# Altium schematic symbol library Connector_Audio.SchLib: 233 symbols (part 2 of 3)
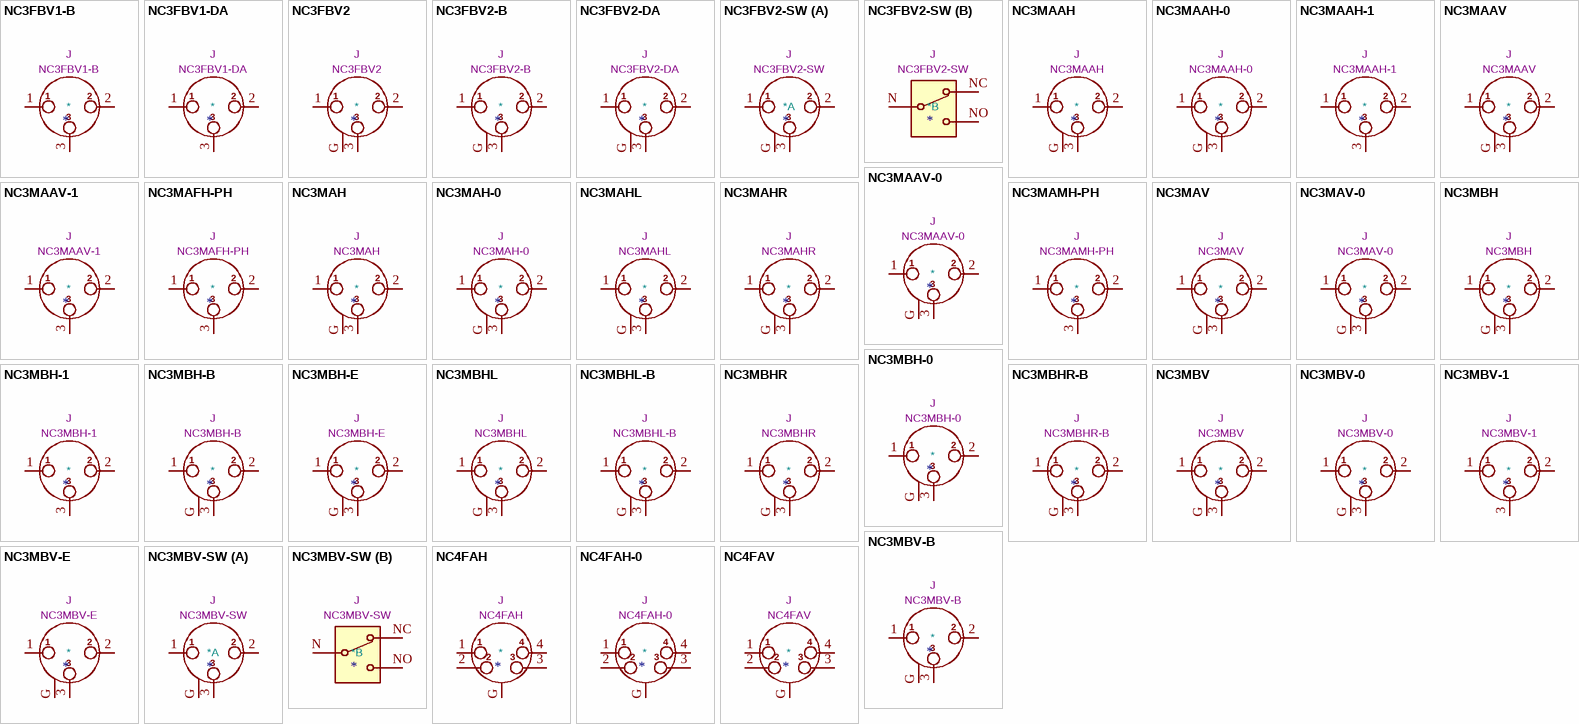
[diagram p8: symbols NC3FBV1-B to NC4FAV]

## NC3MBH-B
designator *  value NC3MBH-B  Reference: J
B Series, 3 pole male XLR receptacle, grounding: separate ground contact to mating connector shell and front panel, steel retention lug, horizontal PCB mount, black chrome shell; ki_keywords: xlr connector neutrik; ki_fp_filters: Jack*XLR*; Footprint: Connector_Audio:Jack_XLR_Neutrik_NC3MBH-B_Horizontal; Datasheet: https://www.neutrik.com/en/product/nc3mbh-b; Description_: B Series, 3 pole male XLR receptacle, grounding: separate ground contact to mating connector shell and front panel, steel retention lug, horizontal PCB mount, black chrome shell
pins: 1, 2, 3, G

## NC3MBH-E
designator *  value NC3MBH-E  Reference: J
B Series, 3 pole male XLR receptacle, grounding: separate ground contact to mating connector shell and front panel, steel retention lug, horizontal PCB mount, additional ground contacts; ki_keywords: xlr connector neutrik; ki_fp_filters: Jack*XLR*; Footprint: Connector_Audio:Jack_XLR_Neutrik_NC3MBH-E_Horizontal; Datasheet: https://www.neutrik.com/en/product/nc3mbh-e; Description_: B Series, 3 pole male XLR receptacle, grounding: separate ground contact to mating connector shell and front panel, steel retention lug, horizontal PCB mount, additional ground contacts
pins: 1, 2, 3, G

## NC3MBHL
designator *  value NC3MBHL  Reference: J
B Series, 3 pole male XLR receptacle, grounding: separate ground contact to mating connector shell and front panel, steel retention lug, lateral left PCB mount; ki_keywords: xlr connector neutrik; ki_fp_filters: Jack*XLR*; Footprint: Connector_Audio:Jack_XLR_Neutrik_NC3MBHL_Horizontal; Datasheet: https://www.neutrik.com/en/product/nc3mbhl; Description_: B Series, 3 pole male XLR receptacle, grounding: separate ground contact to mating connector shell and front panel, steel retention lug, lateral left PCB mount
pins: 1, 2, 3, G

## NC3MBHL-B
designator *  value NC3MBHL-B  Reference: J
B Series, 3 pole male XLR receptacle, grounding: separate ground contact to mating connector shell and front panel, steel retention lug, lateral left PCB mount, black chrome shell; ki_keywords: xlr connector neutrik; ki_fp_filters: Jack*XLR*; Footprint: Connector_Audio:Jack_XLR_Neutrik_NC3MBHL-B_Horizontal; Datasheet: https://www.neutrik.com/en/product/nc3mbhl-b; Description_: B Series, 3 pole male XLR receptacle, grounding: separate ground contact to mating connector shell and front panel, steel retention lug, lateral left PCB mount, black chrome shell
pins: 1, 2, 3, G

## NC3MBHR
designator *  value NC3MBHR  Reference: J
B Series, 3 pole male XLR receptacle, grounding: separate ground contact to mating connector shell and front panel, steel retention lug, lateral right PCB mount; ki_keywords: xlr connector neutrik; ki_fp_filters: Jack*XLR*; Footprint: Connector_Audio:Jack_XLR_Neutrik_NC3MBHR_Horizontal; Datasheet: https://www.neutrik.com/en/product/nc3mbhr; Description_: B Series, 3 pole male XLR receptacle, grounding: separate ground contact to mating connector shell and front panel, steel retention lug, lateral right PCB mount
pins: 1, 2, 3, G

## NC3MBHR-B
designator *  value NC3MBHR-B  Reference: J
B Series, 3 pole male XLR receptacle, grounding: separate ground contact to mating connector shell and front panel, steel retention lug, lateral right PCB mount, black chrome shell; ki_keywords: xlr connector neutrik; ki_fp_filters: Jack*XLR*; Footprint: Connector_Audio:Jack_XLR_Neutrik_NC3MBHR-B_Horizontal; Datasheet: https://www.neutrik.com/en/product/nc3mbhr-b; Description_: B Series, 3 pole male XLR receptacle, grounding: separate ground contact to mating connector shell and front panel, steel retention lug, lateral right PCB mount, black chrome shell
pins: 1, 2, 3, G

## NC3MBV
designator *  value NC3MBV  Reference: J
B Series, 3 pole male XLR receptacle, grounding: separate ground contact to mating connector shell and front panel, steel retention lug, vertical PCB mount; ki_keywords: xlr connector neutrik; ki_fp_filters: Jack*XLR*; Footprint: Connector_Audio:Jack_XLR_Neutrik_NC3MBV_Vertical; Datasheet: https://www.neutrik.com/en/product/nc3mbv; Description_: B Series, 3 pole male XLR receptacle, grounding: separate ground contact to mating connector shell and front panel, steel retention lug, vertical PCB mount
pins: 1, 2, 3, G

## NC3MBV-0
designator *  value NC3MBV-0  Reference: J
B Series, 3 pole male XLR receptacle, grounding: ground contact connected to shell ground, but not to front panel and Pin 1, steel retention lug, vertical PCB mount; ki_keywords: xlr connector neutrik; ki_fp_filters: Jack*XLR*; Footprint: Connector_Audio:Jack_XLR_Neutrik_NC3MBV-0_Vertical; Datasheet: https://www.neutrik.com/en/product/nc3mbv-0; Description_: B Series, 3 pole male XLR receptacle, grounding: ground contact connected to shell ground, but not to front panel and Pin 1, steel retention lug, vertical PCB mount
pins: 1, 2, 3, G

## NC3MBV-1
designator *  value NC3MBV-1  Reference: J
B Series, 3 pole male XLR receptacle, grounding: mating connector shell to pin1 and front panel, steel retention lug, vertical PCB mount; ki_keywords: xlr connector neutrik; ki_fp_filters: Jack*XLR*; Footprint: Connector_Audio:Jack_XLR_Neutrik_NC3MBV-1_Vertical; Datasheet: https://www.neutrik.com/en/product/nc3mbv-1; Description_: B Series, 3 pole male XLR receptacle, grounding: mating connector shell to pin1 and front panel, steel retention lug, vertical PCB mount
pins: 1, 2, 3

## NC3MBV-B
designator *  value NC3MBV-B  Reference: J
B Series, 3 pole male XLR receptacle, grounding: separate ground contact to mating connector shell and front panel, steel retention lug, vertical PCB mount, black chrome shell; ki_keywords: xlr connector neutrik; ki_fp_filters: Jack*XLR*; Footprint: Connector_Audio:Jack_XLR_Neutrik_NC3MBV-B_Vertical; Datasheet: https://www.neutrik.com/en/product/nc3mbv-b; Description_: B Series, 3 pole male XLR receptacle, grounding: separate ground contact to mating connector shell and front panel, steel retention lug, vertical PCB mount, black chrome shell
pins: 1, 2, 3, G

## NC3MBV-E
designator *  value NC3MBV-E  Reference: J
B Series, 3 pole male XLR receptacle, grounding: separate ground contact to mating connector shell and front panel, steel retention lug, vertical PCB mount, additional ground contacts; ki_keywords: xlr connector neutrik; ki_fp_filters: Jack*XLR*; Footprint: Connector_Audio:Jack_XLR_Neutrik_NC3MBV-E_Vertical; Datasheet: https://www.neutrik.com/en/product/nc3mbv-e; Description_: B Series, 3 pole male XLR receptacle, grounding: separate ground contact to mating connector shell and front panel, steel retention lug, vertical PCB mount, additional ground contacts
pins: 1, 2, 3, G

## NC3MBV-SW
designator *  value NC3MBV-SW  Reference: J
B Series, 3 pole male XLR receptacle, switching contacts, grounding: separate ground contact to mating connector shell and front panel, vertical PCB mount; ki_keywords: xlr connector spdt switch neutrik; ki_fp_filters: Jack*XLR*; Footprint: Connector_Audio:Jack_XLR_Neutrik_NC3MBV-SW_Vertical; Datasheet: https://www.neutrik.com/en/product/nc3mbv-sw; Description_: B Series, 3 pole male XLR receptacle, switching contacts, grounding: separate ground contact to mating connector shell and front panel, vertical PCB mount
part A pins: 1, 2, 3, G
part B pins: N, NC, NO

## NC4FAH
designator *  value NC4FAH  Reference: J
A Series, 4 pole female XLR receptacle, grounding: separate ground contact to mating connector shell and front panel, horizontal PCB mount; ki_keywords: xlr connector neutrik; ki_fp_filters: Jack*XLR*; Footprint: Connector_Audio:Jack_XLR_Neutrik_NC4FAH_Horizontal; Datasheet: https://www.neutrik.com/en/product/nc4fah; Description_: A Series, 4 pole female XLR receptacle, grounding: separate ground contact to mating connector shell and front panel, horizontal PCB mount
pins: 1, 2, 3, 4, G

## NC4FAH-0
designator *  value NC4FAH-0  Reference: J
A Series, 4 pole female XLR receptacle, grounding: separate ground contact to mating connector shell and front panel, horizontal PCB mount, retention spring instead of latch; ki_keywords: xlr connector neutrik; ki_fp_filters: Jack*XLR*; Footprint: Connector_Audio:Jack_XLR_Neutrik_NC4FAH-0_Horizontal; Datasheet: https://www.neutrik.com/en/product/nc4fah-0; Description_: A Series, 4 pole female XLR receptacle, grounding: separate ground contact to mating connector shell and front panel, horizontal PCB mount, retention spring instead of latch
pins: 1, 2, 3, 4, G

## NC4FAV
designator *  value NC4FAV  Reference: J
A Series, 4 pole female XLR receptacle, grounding: separate ground contact to mating connector shell and front panel, vertical PCB mount; ki_keywords: xlr connector neutrik; ki_fp_filters: Jack*XLR*; Footprint: Connector_Audio:Jack_XLR_Neutrik_NC4FAV_Vertical; Datasheet: https://www.neutrik.com/en/product/nc4fav; Description_: A Series, 4 pole female XLR receptacle, grounding: separate ground contact to mating connector shell and front panel, vertical PCB mount
pins: 1, 2, 3, 4, G

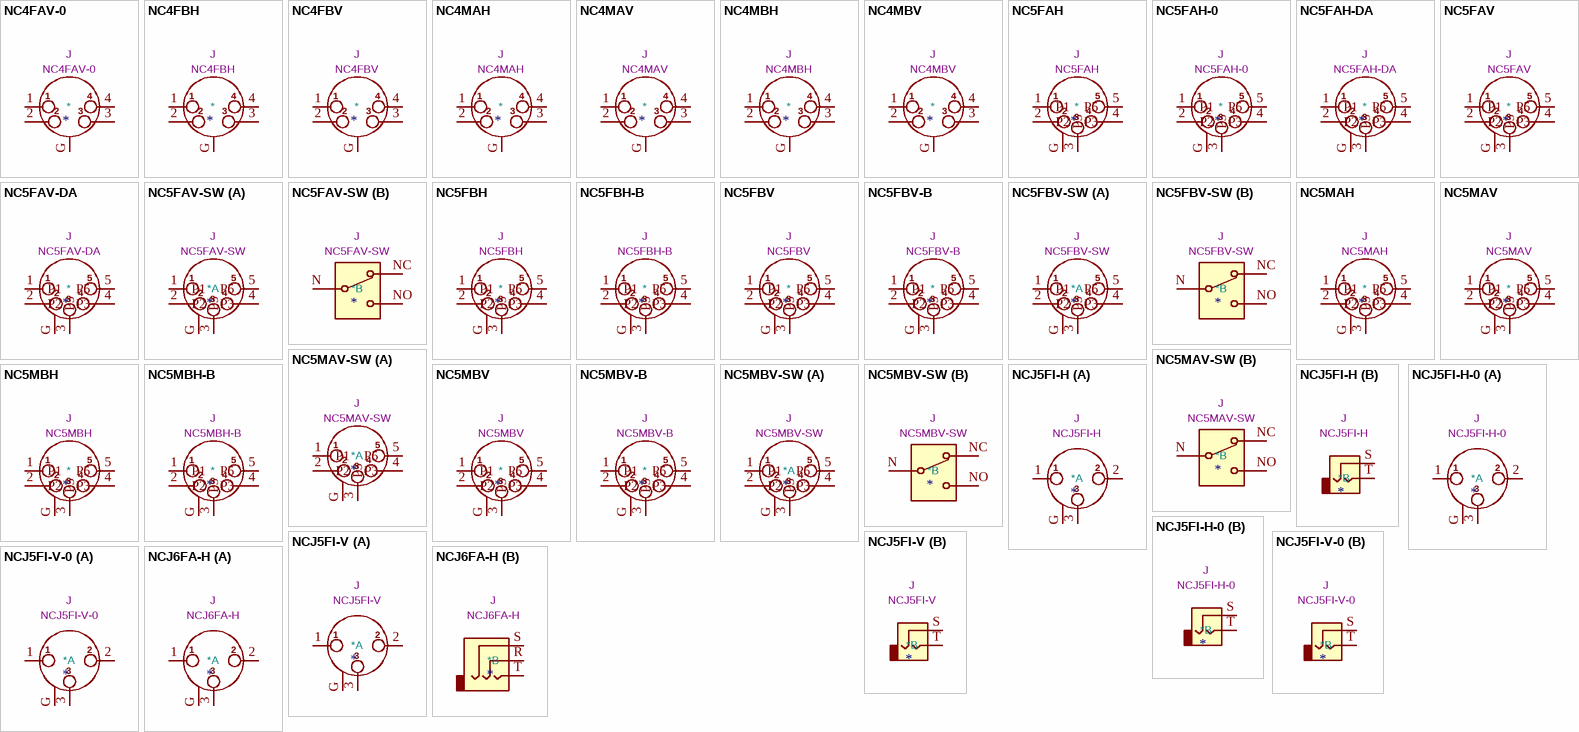
[diagram p3: symbols NC4FAV-0 to NCJ6FA-H]

## NC4FAV-0
designator *  value NC4FAV-0  Reference: J
A Series, 4 pole female XLR receptacle, grounding: separate ground contact to mating connector shell and front panel, vertical PCB mount, retention spring instead of latch; ki_keywords: xlr connector neutrik; ki_fp_filters: Jack*XLR*; Footprint: Connector_Audio:Jack_XLR_Neutrik_NC4FAV-0_Vertical; Datasheet: https://www.neutrik.com/en/product/nc4fav-0; Description_: A Series, 4 pole female XLR receptacle, grounding: separate ground contact to mating connector shell and front panel, vertical PCB mount, retention spring instead of latch
pins: 1, 2, 3, 4, G

## NC4FBH
designator *  value NC4FBH  Reference: J
B Series, 4 pole female XLR receptacle, grounding: separate ground contact to mating connector shell and front panel, horizontal PCB mount; ki_keywords: xlr connector neutrik; ki_fp_filters: Jack*XLR*; Footprint: Connector_Audio:Jack_XLR_Neutrik_NC4FBH_Horizontal; Datasheet: https://www.neutrik.com/en/product/nc4fbh; Description_: B Series, 4 pole female XLR receptacle, grounding: separate ground contact to mating connector shell and front panel, horizontal PCB mount
pins: 1, 2, 3, 4, G

## NC4FBV
designator *  value NC4FBV  Reference: J
B Series, 4 pole female XLR receptacle, grounding: separate ground contact to mating connector shell and front panel, vertical PCB mount; ki_keywords: xlr connector neutrik; ki_fp_filters: Jack*XLR*; Footprint: Connector_Audio:Jack_XLR_Neutrik_NC4FBV_Vertical; Datasheet: https://www.neutrik.com/en/product/nc4fbv; Description_: B Series, 4 pole female XLR receptacle, grounding: separate ground contact to mating connector shell and front panel, vertical PCB mount
pins: 1, 2, 3, 4, G

## NC4MAH
designator *  value NC4MAH  Reference: J
A Series, 4 pole male XLR receptacle, grounding: separate ground contact to mating connector shell and front panel, horizontal PCB mount; ki_keywords: xlr connector neutrik; ki_fp_filters: Jack*XLR*; Footprint: Connector_Audio:Jack_XLR_Neutrik_NC4MAH_Horizontal; Datasheet: https://www.neutrik.com/en/product/nc4mah; Description_: A Series, 4 pole male XLR receptacle, grounding: separate ground contact to mating connector shell and front panel, horizontal PCB mount
pins: 1, 2, 3, 4, G

## NC4MAV
designator *  value NC4MAV  Reference: J
A Series, 4 pole male XLR receptacle, grounding: separate ground contact to mating connector shell and front panel, vertical PCB mount; ki_keywords: xlr connector neutrik; ki_fp_filters: Jack*XLR*; Footprint: Connector_Audio:Jack_XLR_Neutrik_NC4MAV_Vertical; Datasheet: https://www.neutrik.com/en/product/nc4mav; Description_: A Series, 4 pole male XLR receptacle, grounding: separate ground contact to mating connector shell and front panel, vertical PCB mount
pins: 1, 2, 3, 4, G

## NC4MBH
designator *  value NC4MBH  Reference: J
B Series, 4 pole male XLR receptacle, grounding: separate ground contact to mating connector shell and front panel, horizontal PCB mount; ki_keywords: xlr connector neutrik; ki_fp_filters: Jack*XLR*; Footprint: Connector_Audio:Jack_XLR_Neutrik_NC4MBH_Horizontal; Datasheet: https://www.neutrik.com/en/product/nc4mbh; Description_: B Series, 4 pole male XLR receptacle, grounding: separate ground contact to mating connector shell and front panel, horizontal PCB mount
pins: 1, 2, 3, 4, G

## NC4MBV
designator *  value NC4MBV  Reference: J
B Series, 4 pole male XLR receptacle, grounding: separate ground contact to mating connector shell and front panel, vertical PCB mount; ki_keywords: xlr connector neutrik; ki_fp_filters: Jack*XLR*; Footprint: Connector_Audio:Jack_XLR_Neutrik_NC4MBV_Vertical; Datasheet: https://www.neutrik.com/en/product/nc4mbv; Description_: B Series, 4 pole male XLR receptacle, grounding: separate ground contact to mating connector shell and front panel, vertical PCB mount
pins: 1, 2, 3, 4, G

## NC5FAH
designator *  value NC5FAH  Reference: J
A Series, 5 pole female XLR receptacle, grounding: separate ground contact to mating connector shell and front panel, horizontal PCB mount; ki_keywords: xlr connector neutrik; ki_fp_filters: Jack*XLR*; Footprint: Connector_Audio:Jack_XLR_Neutrik_NC5FAH_Horizontal; Datasheet: https://www.neutrik.com/en/product/nc5fah; Description_: A Series, 5 pole female XLR receptacle, grounding: separate ground contact to mating connector shell and front panel, horizontal PCB mount
pins: 1 P1, 2 P2, 3 P3, 4 P3, 5 P5, G

## NC5FAH-0
designator *  value NC5FAH-0  Reference: J
A Series, 5 pole female XLR receptacle, grounding: separate ground contact to mating connector shell and front panel, horizontal PCB mount, retention spring instead of latch; ki_keywords: xlr connector neutrik; ki_fp_filters: Jack*XLR*; Footprint: Connector_Audio:Jack_XLR_Neutrik_NC5FAH-0_Horizontal; Datasheet: https://www.neutrik.com/en/product/nc5fah-0; Description_: A Series, 5 pole female XLR receptacle, grounding: separate ground contact to mating connector shell and front panel, horizontal PCB mount, retention spring instead of latch
pins: 1 P1, 2 P2, 3 P3, 4 P3, 5 P5, G

## NC5FAH-DA
designator *  value NC5FAH-DA  Reference: J
A Series, 5 pole female XLR receptacle, grounding: mating connector shell to pin1 and front panel, horizontal PCB mount, asymmetric push; ki_keywords: xlr connector neutrik; ki_fp_filters: Jack*XLR*; Footprint: Connector_Audio:Jack_XLR_Neutrik_NC5FAH-DA_Horizontal; Datasheet: https://www.neutrik.com/en/product/nc5fah-da; Description_: A Series, 5 pole female XLR receptacle, grounding: mating connector shell to pin1 and front panel, horizontal PCB mount, asymmetric push
pins: 1 P1, 2 P2, 3 P3, 4 P3, 5 P5, G

## NC5FAV
designator *  value NC5FAV  Reference: J
A Series, 5 pole female XLR receptacle, grounding: separate ground contact to mating connector shell and front panel, vertical PCB mount; ki_keywords: xlr connector neutrik; ki_fp_filters: Jack*XLR*; Footprint: Connector_Audio:Jack_XLR_Neutrik_NC5FAV_Vertical; Datasheet: https://www.neutrik.com/en/product/nc5fav; Description_: A Series, 5 pole female XLR receptacle, grounding: separate ground contact to mating connector shell and front panel, vertical PCB mount
pins: 1 P1, 2 P2, 3 P3, 4 P3, 5 P5, G

## NC5FAV-DA
designator *  value NC5FAV-DA  Reference: J
A Series, 5 pole female XLR receptacle, grounding: mating connector shell to pin1 and front panel, horizontal PCB mount, asymmetric push; ki_keywords: xlr connector neutrik; ki_fp_filters: Jack*XLR*; Footprint: Connector_Audio:Jack_XLR_Neutrik_NC5FAV-DA_Vertical; Datasheet: https://www.neutrik.com/en/product/nc5fav-da; Description_: A Series, 5 pole female XLR receptacle, grounding: mating connector shell to pin1 and front panel, horizontal PCB mount, asymmetric push
pins: 1 P1, 2 P2, 3 P3, 4 P3, 5 P5, G

## NC5FAV-SW
designator *  value NC5FAV-SW  Reference: J
A Series, 5 pole female XLR receptacle, switching contacts, grounding: separate ground contact to mating connector shell and front panel, vertical PCB mount, color coding possible; ki_keywords: xlr connector spdt switch neutrik; ki_fp_filters: Jack*XLR*; Footprint: Connector_Audio:Jack_XLR_Neutrik_NC5FAV-SW_Vertical; Datasheet: https://www.neutrik.com/en/product/nc5fav-sw; Description_: A Series, 5 pole female XLR receptacle, switching contacts, grounding: separate ground contact to mating connector shell and front panel, vertical PCB mount, color coding possible
part A pins: 1 P1, 2 P2, 3 P3, 4 P3, 5 P5, G
part B pins: N, NC, NO

## NC5FBH
designator *  value NC5FBH  Reference: J
B Series, 5 pole female XLR receptacle, grounding: separate ground contact to mating connector shell and front panel, horizontal PCB mount; ki_keywords: xlr connector neutrik; ki_fp_filters: Jack*XLR*; Footprint: Connector_Audio:Jack_XLR_Neutrik_NC5FBH_Horizontal; Datasheet: https://www.neutrik.com/en/product/nc5fbh; Description_: B Series, 5 pole female XLR receptacle, grounding: separate ground contact to mating connector shell and front panel, horizontal PCB mount
pins: 1 P1, 2 P2, 3 P3, 4 P3, 5 P5, G

## NC5FBH-B
designator *  value NC5FBH-B  Reference: J
B Series, 5 pole female XLR receptacle, grounding: separate ground contact to mating connector shell and front panel, horizontal PCB mount, black chrome shell; ki_keywords: xlr connector neutrik; ki_fp_filters: Jack*XLR*; Footprint: Connector_Audio:Jack_XLR_Neutrik_NC5FBH-B_Horizontal; Datasheet: https://www.neutrik.com/en/product/nc5fbh-b; Description_: B Series, 5 pole female XLR receptacle, grounding: separate ground contact to mating connector shell and front panel, horizontal PCB mount, black chrome shell
pins: 1 P1, 2 P2, 3 P3, 4 P3, 5 P5, G

## NC5FBV
designator *  value NC5FBV  Reference: J
B Series, 5 pole female XLR receptacle, grounding: separate ground contact to mating connector shell and front panel, vertical PCB mount; ki_keywords: xlr connector neutrik; ki_fp_filters: Jack*XLR*; Footprint: Connector_Audio:Jack_XLR_Neutrik_NC5FBV_Vertical; Datasheet: https://www.neutrik.com/en/product/nc5fbv; Description_: B Series, 5 pole female XLR receptacle, grounding: separate ground contact to mating connector shell and front panel, vertical PCB mount
pins: 1 P1, 2 P2, 3 P3, 4 P3, 5 P5, G

## NC5FBV-B
designator *  value NC5FBV-B  Reference: J
B Series, 5 pole female XLR receptacle, grounding: separate ground contact to mating connector shell and front panel, vertical PCB mount, black chrome shell; ki_keywords: xlr connector neutrik; ki_fp_filters: Jack*XLR*; Footprint: Connector_Audio:Jack_XLR_Neutrik_NC5FBV-B_Vertical; Datasheet: https://www.neutrik.com/en/product/nc5fbv-b; Description_: B Series, 5 pole female XLR receptacle, grounding: separate ground contact to mating connector shell and front panel, vertical PCB mount, black chrome shell
pins: 1 P1, 2 P2, 3 P3, 4 P3, 5 P5, G

## NC5FBV-SW
designator *  value NC5FBV-SW  Reference: J
B Series, 5 pole female XLR receptacle, switching contacts, grounding: separate ground contact to mating connector shell and front panel, vertical PCB mount; ki_keywords: xlr connector spdt switch neutrik; ki_fp_filters: Jack*XLR*; Footprint: Connector_Audio:Jack_XLR_Neutrik_NC5FBV-SW_Vertical; Datasheet: https://www.neutrik.com/en/product/nc5fbv-sw; Description_: B Series, 5 pole female XLR receptacle, switching contacts, grounding: separate ground contact to mating connector shell and front panel, vertical PCB mount
part A pins: 1 P1, 2 P2, 3 P3, 4 P3, 5 P5, G
part B pins: N, NC, NO

## NC5MAH
designator *  value NC5MAH  Reference: J
A Series, 5 pole male XLR receptacle, grounding: separate ground contact to mating connector shell and front panel, horizontal PCB mount; ki_keywords: xlr connector neutrik; ki_fp_filters: Jack*XLR*; Footprint: Connector_Audio:Jack_XLR_Neutrik_NC5MAH_Horizontal; Datasheet: https://www.neutrik.com/en/product/nc5mah; Description_: A Series, 5 pole male XLR receptacle, grounding: separate ground contact to mating connector shell and front panel, horizontal PCB mount
pins: 1 P1, 2 P2, 3 P3, 4 P3, 5 P5, G

## NC5MAV
designator *  value NC5MAV  Reference: J
A Series, 5 pole male XLR receptacle, grounding: separate ground contact to mating connector shell and front panel, vertical PCB mount; ki_keywords: xlr connector neutrik; ki_fp_filters: Jack*XLR*; Footprint: Connector_Audio:Jack_XLR_Neutrik_NC5MAV_Vertical; Datasheet: https://www.neutrik.com/en/product/nc5mav; Description_: A Series, 5 pole male XLR receptacle, grounding: separate ground contact to mating connector shell and front panel, vertical PCB mount
pins: 1 P1, 2 P2, 3 P3, 4 P3, 5 P5, G

## NC5MAV-SW
designator *  value NC5MAV-SW  Reference: J
A Series, 5 pole male XLR receptacle, switching contacts, grounding: separate ground contact to mating connector shell and front panel, vertical PCB mount; ki_keywords: xlr connector spdt switch neutrik; ki_fp_filters: Jack*XLR*; Footprint: Connector_Audio:Jack_XLR_Neutrik_NC5MAV-SW_Vertical; Datasheet: https://www.neutrik.com/en/product/nc5mav-sw; Description_: A Series, 5 pole male XLR receptacle, switching contacts, grounding: separate ground contact to mating connector shell and front panel, vertical PCB mount
part A pins: 1 P1, 2 P2, 3 P3, 4 P3, 5 P5, G
part B pins: N, NC, NO

## NC5MBH
designator *  value NC5MBH  Reference: J
B Series, 5 pole male XLR receptacle, grounding: separate ground contact to mating connector shell and front panel, horizontal PCB mount; ki_keywords: xlr connector neutrik; ki_fp_filters: Jack*XLR*; Footprint: Connector_Audio:Jack_XLR_Neutrik_NC5MBH_Horizontal; Datasheet: https://www.neutrik.com/en/product/nc5mbh; Description_: B Series, 5 pole male XLR receptacle, grounding: separate ground contact to mating connector shell and front panel, horizontal PCB mount
pins: 1 P1, 2 P2, 3 P3, 4 P3, 5 P5, G

## NC5MBH-B
designator *  value NC5MBH-B  Reference: J
B Series, 5 pole male XLR receptacle, grounding: separate ground contact to mating connector shell and front panel, horizontal PCB mount, black chrome shell; ki_keywords: xlr connector neutrik; ki_fp_filters: Jack*XLR*; Footprint: Connector_Audio:Jack_XLR_Neutrik_NC5MBH-B_Horizontal; Datasheet: https://www.neutrik.com/en/product/nc5mbh-b; Description_: B Series, 5 pole male XLR receptacle, grounding: separate ground contact to mating connector shell and front panel, horizontal PCB mount, black chrome shell
pins: 1 P1, 2 P2, 3 P3, 4 P3, 5 P5, G

## NC5MBV
designator *  value NC5MBV  Reference: J
B Series, 5 pole male XLR receptacle, grounding: separate ground contact to mating connector shell and front panel, vertical PCB mount; ki_keywords: xlr connector neutrik; ki_fp_filters: Jack*XLR*; Footprint: Connector_Audio:Jack_XLR_Neutrik_NC5MBV_Vertical; Datasheet: https://www.neutrik.com/en/product/nc5mbv; Description_: B Series, 5 pole male XLR receptacle, grounding: separate ground contact to mating connector shell and front panel, vertical PCB mount
pins: 1 P1, 2 P2, 3 P3, 4 P3, 5 P5, G

## NC5MBV-B
designator *  value NC5MBV-B  Reference: J
B Series, 5 pole male XLR receptacle, grounding: separate ground contact to mating connector shell and front panel, vertical PCB mount, black chrome shell; ki_keywords: xlr connector neutrik; ki_fp_filters: Jack*XLR*; Footprint: Connector_Audio:Jack_XLR_Neutrik_NC5MBV-B_Vertical; Datasheet: https://www.neutrik.com/en/product/nc5mbv-b; Description_: B Series, 5 pole male XLR receptacle, grounding: separate ground contact to mating connector shell and front panel, vertical PCB mount, black chrome shell
pins: 1 P1, 2 P2, 3 P3, 4 P3, 5 P5, G

## NC5MBV-SW
designator *  value NC5MBV-SW  Reference: J
B Series, 5 pole male XLR receptacle, switching contacts, grounding: separate ground contact to mating connector shell and front panel, vertical PCB mount; ki_keywords: xlr connector spdt switch neutrik; ki_fp_filters: Jack*XLR*; Footprint: Connector_Audio:Jack_XLR_Neutrik_NC5MBV-SW_Vertical; Datasheet: https://www.neutrik.com/en/product/nc5mbv-sw; Description_: B Series, 5 pole male XLR receptacle, switching contacts, grounding: separate ground contact to mating connector shell and front panel, vertical PCB mount
part A pins: 1 P1, 2 P2, 3 P3, 4 P3, 5 P5, G
part B pins: N, NC, NO

## NCJ5FI-H
designator *  value NCJ5FI-H  Reference: J
Combo I series, 3 pole XLR female receptacle with 6.35mm (1/4in) mono jack without switching contact, horizontal PCB mount, retention spring; ki_keywords: xlr connector neutrik; ki_fp_filters: Jack*XLR*6.35mm*; Footprint: Connector_Audio:Jack_XLR-6.35mm_Neutrik_NCJ5FI-H_Horizontal; Datasheet: https://www.neutrik.com/en/product/ncj5fi-h; Description_: Combo I series, 3 pole XLR female receptacle with 6.35mm (1/4in) mono jack without switching contact, horizontal PCB mount, retention spring
part A pins: 1, 2, 3, G
part B pins: S, T

## NCJ5FI-H-0
designator *  value NCJ5FI-H-0  Reference: J
Combo I series, 3 pole XLR female receptacle with 6.35mm (1/4in) mono jack without switching contact, horizontal PCB mount; ki_keywords: xlr connector neutrik; ki_fp_filters: Jack*XLR*6.35mm*; Footprint: Connector_Audio:Jack_XLR-6.35mm_Neutrik_NCJ5FI-H-0_Horizontal; Datasheet: https://www.neutrik.com/en/product/ncj5fi-h-0; Description_: Combo I series, 3 pole XLR female receptacle with 6.35mm (1/4in) mono jack without switching contact, horizontal PCB mount
part A pins: 1, 2, 3, G
part B pins: S, T

## NCJ5FI-V
designator *  value NCJ5FI-V  Reference: J
Combo I series, 3 pole XLR female receptacle with 6.35mm (1/4in) mono jack without switching contact, vertical PCB mount, retention spring; ki_keywords: xlr connector neutrik; ki_fp_filters: Jack*XLR*6.35mm*; Footprint: Connector_Audio:Jack_XLR-6.35mm_Neutrik_NCJ5FI-V_Vertical; Datasheet: https://www.neutrik.com/en/product/ncj5fi-v; Description_: Combo I series, 3 pole XLR female receptacle with 6.35mm (1/4in) mono jack without switching contact, vertical PCB mount, retention spring
part A pins: 1, 2, 3, G
part B pins: S, T

## NCJ5FI-V-0
designator *  value NCJ5FI-V-0  Reference: J
Combo I series, 3 pole XLR female receptacle with 6.35mm (1/4in) mono jack without switching contact, vertical PCB mount; ki_keywords: xlr connector neutrik; ki_fp_filters: Jack*XLR*6.35mm*; Footprint: Connector_Audio:Jack_XLR-6.35mm_Neutrik_NCJ5FI-V-0_Vertical; Datasheet: https://www.neutrik.com/en/product/ncj5fi-v-0; Description_: Combo I series, 3 pole XLR female receptacle with 6.35mm (1/4in) mono jack without switching contact, vertical PCB mount
part A pins: 1, 2, 3, G
part B pins: S, T

## NCJ6FA-H
designator *  value NCJ6FA-H  Reference: J
Combo A series, 3 pole XLR female receptacle with 6.35mm (1/4in) stereo jack, horizontal PCB mount; ki_keywords: xlr connector neutrik; ki_fp_filters: Jack*XLR*6.35mm*; Footprint: Connector_Audio:Jack_XLR-6.35mm_Neutrik_NCJ6FA-H_Horizontal; Datasheet: https://www.neutrik.com/en/product/ncj6fa-h; Description_: Combo A series, 3 pole XLR female receptacle with 6.35mm (1/4in) stereo jack, horizontal PCB mount
part A pins: 1, 2, 3, G
part B pins: R, S, T

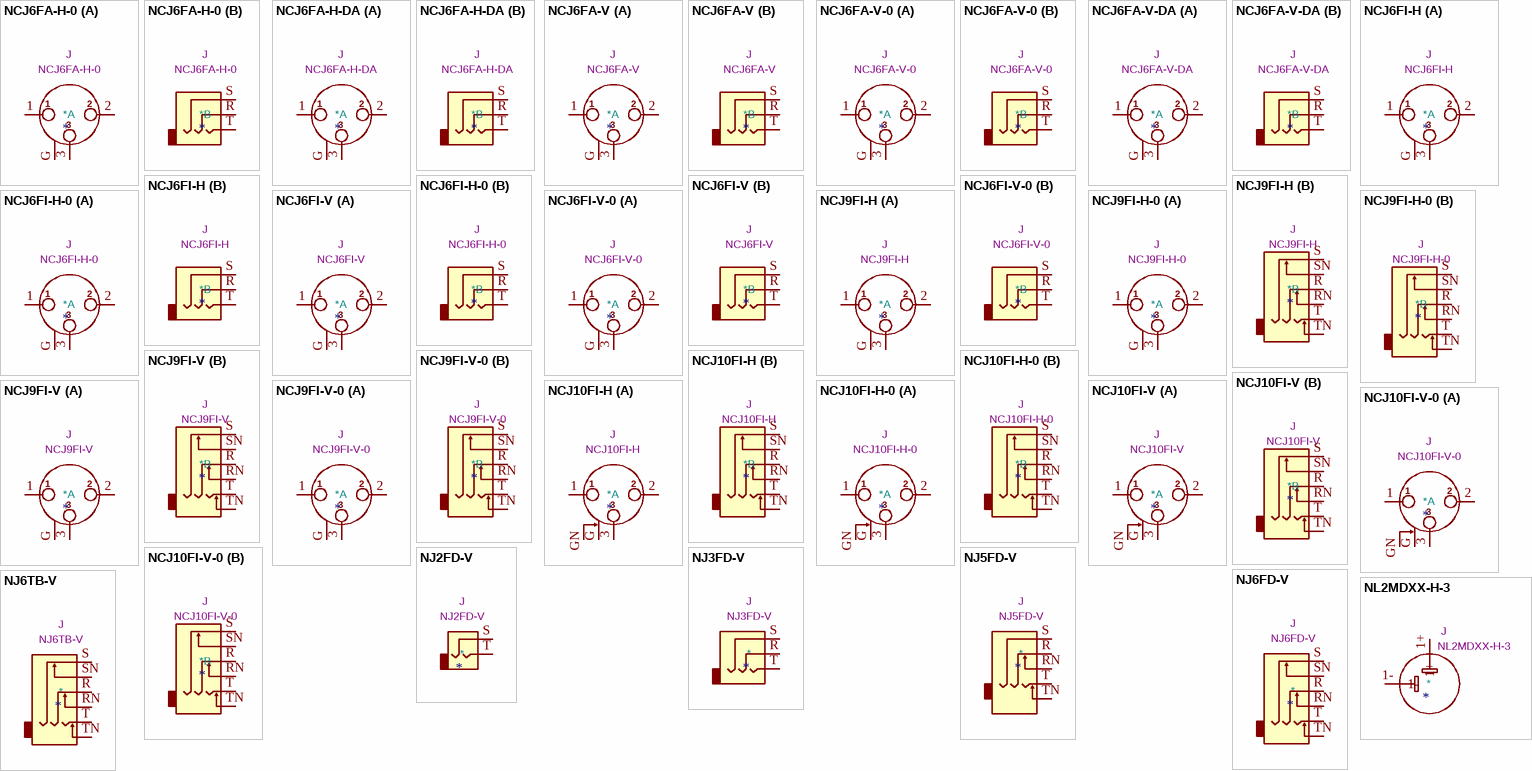
[diagram p4: symbols NCJ6FA-H-0 to NL2MDXX-H-3]

## NCJ6FA-H-0
designator *  value NCJ6FA-H-0  Reference: J
Combo A series, 3 pole XLR female receptacle with 6.35mm (1/4in) stereo jack, horizontal PCB mount, retention spring; ki_keywords: xlr connector neutrik; ki_fp_filters: Jack*XLR*6.35mm*; Footprint: Connector_Audio:Jack_XLR-6.35mm_Neutrik_NCJ6FA-H-0_Horizontal; Datasheet: https://www.neutrik.com/en/product/ncj6fa-h-0; Description_: Combo A series, 3 pole XLR female receptacle with 6.35mm (1/4in) stereo jack, horizontal PCB mount, retention spring
part A pins: 1, 2, 3, G
part B pins: R, S, T

## NCJ6FA-H-DA
designator *  value NCJ6FA-H-DA  Reference: J
Combo A series, 3 pole XLR female receptacle with 6.35mm (1/4in) stereo jack, horizontal PCB mount, asymmetric push; ki_keywords: xlr connector neutrik; ki_fp_filters: Jack*XLR*6.35mm*; Footprint: Connector_Audio:Jack_XLR-6.35mm_Neutrik_NCJ6FA-H-DA_Horizontal; Datasheet: https://www.neutrik.com/en/product/ncj6fa-h-da; Description_: Combo A series, 3 pole XLR female receptacle with 6.35mm (1/4in) stereo jack, horizontal PCB mount, asymmetric push
part A pins: 1, 2, 3, G
part B pins: R, S, T

## NCJ6FA-V
designator *  value NCJ6FA-V  Reference: J
Combo A series, 3 pole XLR female receptacle with 6.35mm (1/4in) stereo jack, vertical PCB mount; ki_keywords: xlr connector neutrik; ki_fp_filters: Jack*XLR*6.35mm*; Footprint: Connector_Audio:Jack_XLR-6.35mm_Neutrik_NCJ6FA-V_Vertical; Datasheet: https://www.neutrik.com/en/product/ncj6fa-v; Description_: Combo A series, 3 pole XLR female receptacle with 6.35mm (1/4in) stereo jack, vertical PCB mount
part A pins: 1, 2, 3, G
part B pins: R, S, T

## NCJ6FA-V-0
designator *  value NCJ6FA-V-0  Reference: J
Combo A series, 3 pole XLR female receptacle with 6.35mm (1/4in) stereo jack, vertical PCB mount, retention spring; ki_keywords: xlr connector neutrik; ki_fp_filters: Jack*XLR*6.35mm*; Footprint: Connector_Audio:Jack_XLR-6.35mm_Neutrik_NCJ6FA-V-0_Vertical; Datasheet: https://www.neutrik.com/en/product/ncj6fa-v-0; Description_: Combo A series, 3 pole XLR female receptacle with 6.35mm (1/4in) stereo jack, vertical PCB mount, retention spring
part A pins: 1, 2, 3, G
part B pins: R, S, T

## NCJ6FA-V-DA
designator *  value NCJ6FA-V-DA  Reference: J
Combo A series, 3 pole XLR female receptacle with 6.35mm (1/4in) stereo jack, vertical PCB mount, asymmetric push; ki_keywords: xlr connector neutrik; ki_fp_filters: Jack*XLR*6.35mm*; Footprint: Connector_Audio:Jack_XLR-6.35mm_Neutrik_NCJ6FA-V-DA_Vertical; Datasheet: https://www.neutrik.com/en/product/ncj6fa-v-da; Description_: Combo A series, 3 pole XLR female receptacle with 6.35mm (1/4in) stereo jack, vertical PCB mount, asymmetric push
part A pins: 1, 2, 3, G
part B pins: R, S, T

## NCJ6FI-H
designator *  value NCJ6FI-H  Reference: J
Combo I series, 3 pole XLR female receptacle with 6.35mm (1/4in) stereo jack without switching contact, horizontal PCB mount, retention spring; ki_keywords: xlr connector neutrik; ki_fp_filters: Jack*XLR*6.35mm*; Footprint: Connector_Audio:Jack_XLR-6.35mm_Neutrik_NCJ6FI-H_Horizontal; Datasheet: https://www.neutrik.com/en/product/ncj6fi-h; Description_: Combo I series, 3 pole XLR female receptacle with 6.35mm (1/4in) stereo jack without switching contact, horizontal PCB mount, retention spring
part A pins: 1, 2, 3, G
part B pins: R, S, T

## NCJ6FI-H-0
designator *  value NCJ6FI-H-0  Reference: J
Combo I series, 3 pole XLR female receptacle with 6.35mm (1/4in) stereo jack without switching contact, horizontal PCB mount; ki_keywords: xlr connector neutrik; ki_fp_filters: Jack*XLR*6.35mm*; Footprint: Connector_Audio:Jack_XLR-6.35mm_Neutrik_NCJ6FI-H-0_Horizontal; Datasheet: https://www.neutrik.com/en/product/ncj6fi-h-0; Description_: Combo I series, 3 pole XLR female receptacle with 6.35mm (1/4in) stereo jack without switching contact, horizontal PCB mount
part A pins: 1, 2, 3, G
part B pins: R, S, T

## NCJ6FI-V
designator *  value NCJ6FI-V  Reference: J
Combo I series, 3 pole XLR female receptacle with 6.35mm (1/4in) stereo jack without switching contact, vertical PCB mount, retention spring; ki_keywords: xlr connector neutrik; ki_fp_filters: Jack*XLR*6.35mm*; Footprint: Connector_Audio:Jack_XLR-6.35mm_Neutrik_NCJ6FI-V_Vertical; Datasheet: https://www.neutrik.com/en/product/ncj6fi-v; Description_: Combo I series, 3 pole XLR female receptacle with 6.35mm (1/4in) stereo jack without switching contact, vertical PCB mount, retention spring
part A pins: 1, 2, 3, G
part B pins: R, S, T

## NCJ6FI-V-0
designator *  value NCJ6FI-V-0  Reference: J
Combo I series, 3 pole XLR female receptacle with 6.35mm (1/4in) stereo jack without switching contact, vertical PCB mount; ki_keywords: xlr connector neutrik; ki_fp_filters: Jack*XLR*6.35mm*; Footprint: Connector_Audio:Jack_XLR-6.35mm_Neutrik_NCJ6FI-V-0_Vertical; Datasheet: https://www.neutrik.com/en/product/ncj6fi-v-0; Description_: Combo I series, 3 pole XLR female receptacle with 6.35mm (1/4in) stereo jack without switching contact, vertical PCB mount
part A pins: 1, 2, 3, G
part B pins: R, S, T

## NCJ9FI-H
designator *  value NCJ9FI-H  Reference: J
Combo I series, 3 pole XLR female receptacle with 6.35mm (1/4in) switching stereo jack, horizontal PCB mount, retention spring; ki_keywords: xlr connector neutrik; ki_fp_filters: Jack*XLR*6.35mm*; Footprint: Connector_Audio:Jack_XLR-6.35mm_Neutrik_NCJ9FI-H_Horizontal; Datasheet: https://www.neutrik.com/en/product/ncj9fi-h; Description_: Combo I series, 3 pole XLR female receptacle with 6.35mm (1/4in) switching stereo jack, horizontal PCB mount, retention spring
part A pins: 1, 2, 3, G
part B pins: R, RN, S, SN, T, TN

## NCJ9FI-H-0
designator *  value NCJ9FI-H-0  Reference: J
Combo I series, 3 pole XLR female receptacle with 6.35mm (1/4in) switching stereo jack, horizontal PCB mount; ki_keywords: xlr connector neutrik; ki_fp_filters: Jack*XLR*6.35mm*; Footprint: Connector_Audio:Jack_XLR-6.35mm_Neutrik_NCJ9FI-H-0_Horizontal; Datasheet: https://www.neutrik.com/en/product/ncj9fi-h-0; Description_: Combo I series, 3 pole XLR female receptacle with 6.35mm (1/4in) switching stereo jack, horizontal PCB mount
part A pins: 1, 2, 3, G
part B pins: R, RN, S, SN, T, TN

## NCJ9FI-V
designator *  value NCJ9FI-V  Reference: J
Combo I series, 3 pole XLR female receptacle with 6.35mm (1/4in) switching stereo jack, vertical PCB mount, retention spring; ki_keywords: xlr connector neutrik; ki_fp_filters: Jack*XLR*6.35mm*; Footprint: Connector_Audio:Jack_XLR-6.35mm_Neutrik_NCJ9FI-V_Vertical; Datasheet: https://www.neutrik.com/en/product/ncj9fi-v; Description_: Combo I series, 3 pole XLR female receptacle with 6.35mm (1/4in) switching stereo jack, vertical PCB mount, retention spring
part A pins: 1, 2, 3, G
part B pins: R, RN, S, SN, T, TN

## NCJ9FI-V-0
designator *  value NCJ9FI-V-0  Reference: J
Combo I series, 3 pole XLR female receptacle with 6.35mm (1/4in) switching stereo jack, vertical PCB mount; ki_keywords: xlr connector neutrik; ki_fp_filters: Jack*XLR*6.35mm*; Footprint: Connector_Audio:Jack_XLR-6.35mm_Neutrik_NCJ9FI-V-0_Vertical; Datasheet: https://www.neutrik.com/en/product/ncj9fi-v-0; Description_: Combo I series, 3 pole XLR female receptacle with 6.35mm (1/4in) switching stereo jack, vertical PCB mount
part A pins: 1, 2, 3, G
part B pins: R, RN, S, SN, T, TN

## NCJ10FI-H
designator *  value NCJ10FI-H  Reference: J
Combo I series, 3 pole XLR female receptacle with 6.35mm (1/4in) switching stereo jack and switching ground contact, horizontal PCB mount, retention spring; ki_keywords: xlr connector neutrik; ki_fp_filters: Jack*XLR*6.35mm*; Footprint: Connector_Audio:Jack_XLR-6.35mm_Neutrik_NCJ10FI-H_Horizontal; Datasheet: https://www.neutrik.com/en/product/ncj10fi-h; Description_: Combo I series, 3 pole XLR female receptacle with 6.35mm (1/4in) switching stereo jack and switching ground contact, horizontal PCB mount, retention spring
part A pins: 1, 2, 3, G, GN
part B pins: R, RN, S, SN, T, TN

## NCJ10FI-H-0
designator *  value NCJ10FI-H-0  Reference: J
Combo I series, 3 pole XLR female receptacle with 6.35mm (1/4in) switching stereo jack and switching ground contact, horizontal PCB mount; ki_keywords: xlr connector neutrik; ki_fp_filters: Jack*XLR*6.35mm*; Footprint: Connector_Audio:Jack_XLR-6.35mm_Neutrik_NCJ10FI-H-0_Horizontal; Datasheet: https://www.neutrik.com/en/product/ncj10fi-h-0; Description_: Combo I series, 3 pole XLR female receptacle with 6.35mm (1/4in) switching stereo jack and switching ground contact, horizontal PCB mount
part A pins: 1, 2, 3, G, GN
part B pins: R, RN, S, SN, T, TN

## NCJ10FI-V
designator *  value NCJ10FI-V  Reference: J
Combo I series, 3 pole XLR female receptacle with 6.35mm (1/4in) switching stereo jack and switching ground contact, vertical PCB mount, retention spring; ki_keywords: xlr connector neutrik; ki_fp_filters: Jack*XLR*6.35mm*; Footprint: Connector_Audio:Jack_XLR-6.35mm_Neutrik_NCJ10FI-V_Vertical; Datasheet: https://www.neutrik.com/en/product/ncj10fi-v; Description_: Combo I series, 3 pole XLR female receptacle with 6.35mm (1/4in) switching stereo jack and switching ground contact, vertical PCB mount, retention spring
part A pins: 1, 2, 3, G, GN
part B pins: R, RN, S, SN, T, TN

## NCJ10FI-V-0
designator *  value NCJ10FI-V-0  Reference: J
Combo I series, 3 pole XLR female receptacle with 6.35mm (1/4in) switching stereo jack and switching ground contact, vertical PCB mount; ki_keywords: xlr connector neutrik; ki_fp_filters: Jack*XLR*6.35mm*; Footprint: Connector_Audio:Jack_XLR-6.35mm_Neutrik_NCJ10FI-V-0_Vertical; Datasheet: https://www.neutrik.com/en/product/ncj10fi-v-0; Description_: Combo I series, 3 pole XLR female receptacle with 6.35mm (1/4in) switching stereo jack and switching ground contact, vertical PCB mount
part A pins: 1, 2, 3, G, GN
part B pins: R, RN, S, SN, T, TN

## NJ2FD-V
designator *  value NJ2FD-V  Reference: J
6.35mm (1/4 in) Vertical Jack, Non-switching mono jack (T/S); ki_keywords: audio jack receptacle mono phone headphone TS connector neutrik; ki_fp_filters: Jack*; Footprint: Connector_Audio:Jack_6.35mm_Neutrik_NJ2FD-V_Vertical; Datasheet: https://www.neutrik.com/en/product/nj2fd-v; Description_: 6.35mm (1/4 in) Vertical Jack, Non-switching mono jack (T/S)
pins: S, T

## NJ3FD-V
designator *  value NJ3FD-V  Reference: J
6.35mm (1/4 in) Vertical Jack, Non-switching stereo jack (T/R/S); ki_keywords: audio jack receptacle stereo headphones phones TRS connector neutrik; ki_fp_filters: Jack*; Footprint: Connector_Audio:Jack_6.35mm_Neutrik_NJ3FD-V_Vertical; Datasheet: https://www.neutrik.com/en/product/nj3fd-v; Description_: 6.35mm (1/4 in) Vertical Jack, Non-switching stereo jack (T/R/S)
pins: R, S, T

## NJ5FD-V
designator *  value NJ5FD-V  Reference: J
6.35mm (1/4 in) Vertical Jack, 2 x switching (normalling) stereo jack (T/TN/R/RN/S); ki_keywords: audio jack receptacle stereo headphones phones TRS connector neutrik; ki_fp_filters: Jack*; Footprint: Connector_Audio:Jack_6.35mm_Neutrik_NJ5FD-V_Vertical; Datasheet: https://www.neutrik.com/en/product/nj5fd-v; Description_: 6.35mm (1/4 in) Vertical Jack, 2 x switching (normalling) stereo jack (T/TN/R/RN/S)
pins: R, RN, S, T, TN

## NJ6FD-V
designator *  value NJ6FD-V  Reference: J
6.35mm (1/4 in) Vertical Jack, 3 x switching (normalling) stereo jack (T/TN/R/RN/S/SN); ki_keywords: audio jack receptacle stereo headphones connector neutrik; ki_fp_filters: Jack*; Footprint: Connector_Audio:Jack_6.35mm_Neutrik_NJ6FD-V_Vertical; Datasheet: https://www.neutrik.com/en/product/nj6fd-v; Description_: 6.35mm (1/4 in) Vertical Jack, 3 x switching (normalling) stereo jack (T/TN/R/RN/S/SN)
pins: R, RN, S, SN, T, TN

## NJ6TB-V
designator *  value NJ6TB-V  Reference: J
6.35mm (1/4 in) Vertical Jack, 3 x switching (normalling) stereo jack  B-gauge type (T/TN/R/RN/S/SN); ki_keywords: audio jack receptacle stereo headphones connector neutrik; ki_fp_filters: Jack*; Footprint: Connector_Audio:Jack_6.35mm_Neutrik_NJ6TB-V_Vertical; Datasheet: https://www.neutrik.com/en/product/nj6tb-v; Description_: 6.35mm (1/4 in) Vertical Jack, 3 x switching (normalling) stereo jack  B-gauge type (T/TN/R/RN/S/SN)
pins: R, RN, S, SN, T, TN

## NL2MDXX-H-3
designator *  value NL2MDXX-H-3  Reference: J
speakON Chassis Connectors, 2 pole chassis connector, gray D-size flange, countersunk thru holes, horizontal PCB. Replaces NL2MD-H; ki_keywords: speakon connector neutrik; ki_fp_filters: Jack*speakON*; Footprint: Connector_Audio:Jack_speakON_Neutrik_NL2MDXX-H-3_Horizontal; Datasheet: https://www.neutrik.com/en/product/nl2mdxx-h-3; Description_: speakON Chassis Connectors, 2 pole chassis connector, gray D-size flange, countersunk thru holes, horizontal PCB. Replaces NL2MD-H
pins: 1+, 1-

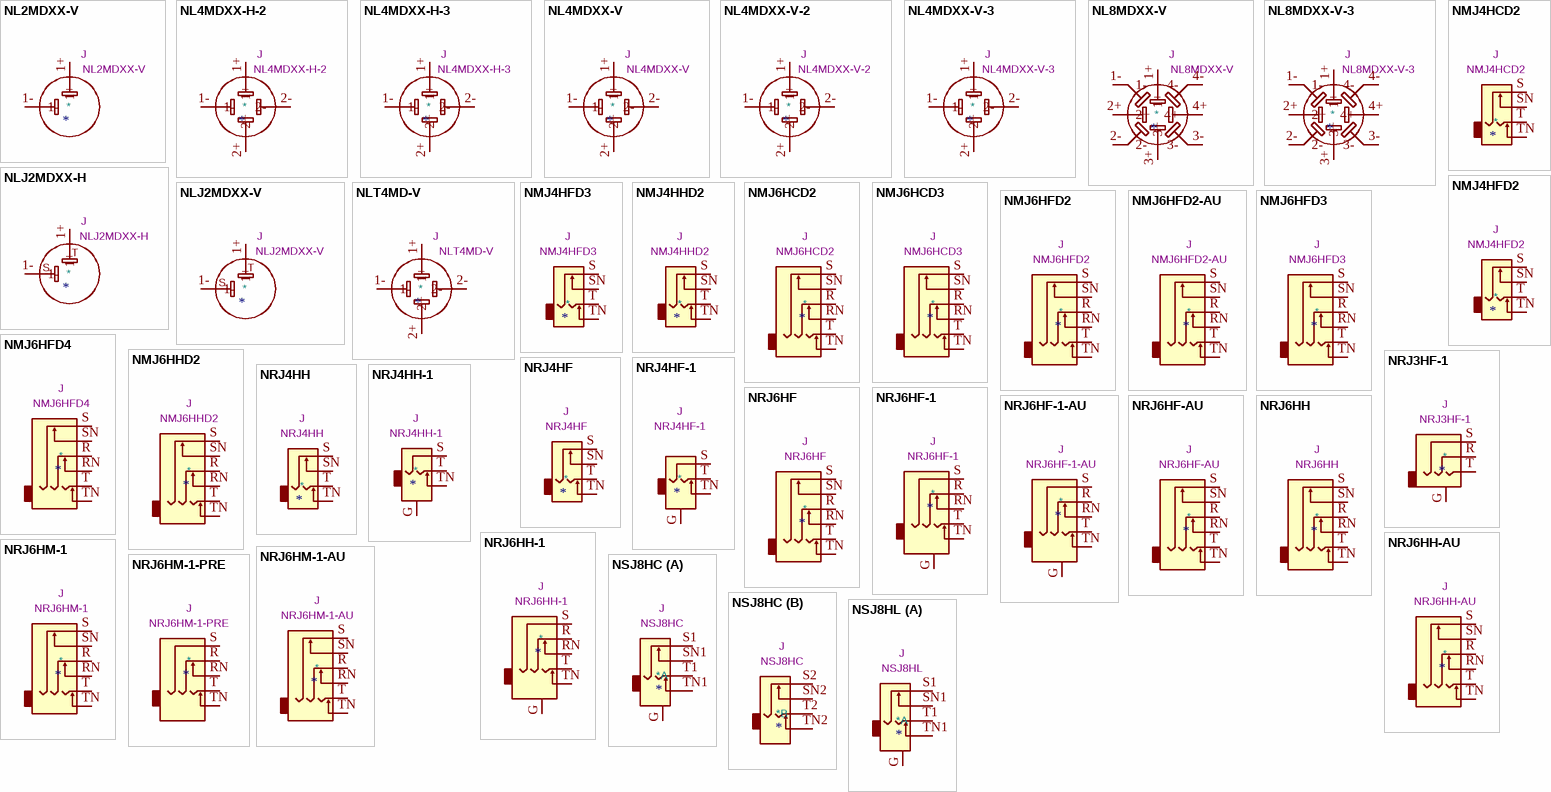
[diagram p5: symbols NL2MDXX-V to NSJ8HL]

## NL2MDXX-V
designator *  value NL2MDXX-V  Reference: J
speakON Chassis Connectors, 2 pole chassis connector, black D-size flange, countersunk thru holes, vertical PCB mount. Replaces NL2MD-V; ki_keywords: speakon connector neutrik; ki_fp_filters: Jack*speakON*; Footprint: Connector_Audio:Jack_speakON_Neutrik_NL2MDXX-V_Vertical; Datasheet: https://www.neutrik.com/en/product/nl2mdxx-v; Description_: speakON Chassis Connectors, 2 pole chassis connector, black D-size flange, countersunk thru holes, vertical PCB mount. Replaces NL2MD-V
pins: 1+, 1-

## NL4MDXX-H-2
designator *  value NL4MDXX-H-2  Reference: J
speakON Chassis Connectors, 4 pole chassis connector, black D-size flange, mirrored self tapping screw holes (A-screw), horizontal PCB mount. Replaces NL4MD-H-2; ki_keywords: speakon connector neutrik; ki_fp_filters: Jack*speakON*; Footprint: Connector_Audio:Jack_speakON_Neutrik_NL4MDXX-H-2_Horizontal; Datasheet: https://www.neutrik.com/en/product/nl4mdxx-h-2; Description_: speakON Chassis Connectors, 4 pole chassis connector, black D-size flange, mirrored self tapping screw holes (A-screw), horizontal PCB mount. Replaces NL4MD-H-2
pins: 1+, 1-, 2+, 2-

## NL4MDXX-H-3
designator *  value NL4MDXX-H-3  Reference: J
speakON Chassis Connectors, 4 pole chassis connector, grey D-size flange, self tapping screw holes (A-screw), horizontal PCB mount. Replaces NL4MD-H, NL4MD-V-R, and NL4MD-V-S; ki_keywords: speakon connector neutrik; ki_fp_filters: Jack*speakON*; Footprint: Connector_Audio:Jack_speakON_Neutrik_NL4MDXX-H-3_Horizontal; Datasheet: https://www.neutrik.com/en/product/nl4mdxx-h-3; Description_: speakON Chassis Connectors, 4 pole chassis connector, grey D-size flange, self tapping screw holes (A-screw), horizontal PCB mount. Replaces NL4MD-H, NL4MD-V-R, and NL4MD-V-S
pins: 1+, 1-, 2+, 2-

## NL4MDXX-V
designator *  value NL4MDXX-V  Reference: J
speakON Chassis Connectors, 4 pole chassis connector, black D-size flange, countersunk thru holes, vertical PCB mount. Replaces NL4MD-V, NL4MD-V-R, and NL4MD-V-S; ki_keywords: speakon connector neutrik; ki_fp_filters: Jack*speakON*; Footprint: Connector_Audio:Jack_speakON_Neutrik_NL4MDXX-V_Vertical; Datasheet: https://www.neutrik.com/en/product/nl4mdxx-v; Description_: speakON Chassis Connectors, 4 pole chassis connector, black D-size flange, countersunk thru holes, vertical PCB mount. Replaces NL4MD-V, NL4MD-V-R, and NL4MD-V-S
pins: 1+, 1-, 2+, 2-

## NL4MDXX-V-2
designator *  value NL4MDXX-V-2  Reference: J
speakON Chassis Connectors, 4 pole chassis connector, black D-size flange, mirrored self tapping screw holes (A-screw), vertical PCB mount. Replaces NL4MD-V-2; ki_keywords: speakon connector neutrik; ki_fp_filters: Jack*speakON*; Footprint: Connector_Audio:Jack_speakON_Neutrik_NL4MDXX-V-2_Vertical; Datasheet: https://www.neutrik.com/en/product/nl4mdxx-v-2; Description_: speakON Chassis Connectors, 4 pole chassis connector, black D-size flange, mirrored self tapping screw holes (A-screw), vertical PCB mount. Replaces NL4MD-V-2
pins: 1+, 1-, 2+, 2-

## NL4MDXX-V-3
designator *  value NL4MDXX-V-3  Reference: J
speakON Chassis Connectors, 4 pole chassis connector, grey D-size flange, self tapping screw holes (A-screw), vertical PCB mount. Replaces NL4MD-V-1; ki_keywords: speakon connector neutrik; ki_fp_filters: Jack*speakON*; Footprint: Connector_Audio:Jack_speakON_Neutrik_NL4MDXX-V-3_Vertical; Datasheet: https://www.neutrik.com/en/product/nl4mdxx-v-3; Description_: speakON Chassis Connectors, 4 pole chassis connector, grey D-size flange, self tapping screw holes (A-screw), vertical PCB mount. Replaces NL4MD-V-1
pins: 1+, 1-, 2+, 2-

## NL8MDXX-V
designator *  value NL8MDXX-V  Reference: J
speakON Chassis Connectors, 8 pole chassis connector, nickel metal square G-size flange, countersunk thru holes, vertical PCB mount. Replaces NL8MD-V; ki_keywords: speakon connector neutrik; ki_fp_filters: Jack*speakON*; Footprint: Connector_Audio:Jack_speakON_Neutrik_NL8MDXX-V_Vertical; Datasheet: https://www.neutrik.com/en/product/nl8mdxx-v; Description_: speakON Chassis Connectors, 8 pole chassis connector, nickel metal square G-size flange, countersunk thru holes, vertical PCB mount. Replaces NL8MD-V
pins: 1+, 1-, 2+, 2-, 3+, 3-, 4+, 4-

## NL8MDXX-V-3
designator *  value NL8MDXX-V-3  Reference: J
speakON Chassis Connectors, 8 pole chassis connector, nickel metal square G-size flange, self tapping screw holes (A-screw), vertical PCB mount. Replaces NL8MD-V-1; ki_keywords: speakon connector neutrik; ki_fp_filters: Jack*speakON*; Footprint: Connector_Audio:Jack_speakON_Neutrik_NL8MDXX-V-3_Vertical; Datasheet: https://www.neutrik.com/en/product/nl8mdxx-v-3; Description_: speakON Chassis Connectors, 8 pole chassis connector, nickel metal square G-size flange, self tapping screw holes (A-screw), vertical PCB mount. Replaces NL8MD-V-1
pins: 1+, 1-, 2+, 2-, 3+, 3-, 4+, 4-

## NLJ2MDXX-H
designator *  value NLJ2MDXX-H  Reference: J
speakON Combo, 2 pole combination of speakON socket and 6.35mm (1/4in) jack receptacle, horizontal pcb mount. Replaces NLJ2MD-H; ki_keywords: speakon connector neutrik; ki_fp_filters: Jack*speakON*; Footprint: Connector_Audio:Jack_speakON-6.35mm_Neutrik_NLJ2MDXX-H_Horizontal; Datasheet: https://www.neutrik.com/en/product/nlj2mdxx-h; Description_: speakON Combo, 2 pole combination of speakON socket and 6.35mm (1/4in) jack receptacle, horizontal pcb mount. Replaces NLJ2MD-H
pins: 1+, 1-
text: T; S

## NLJ2MDXX-V
designator *  value NLJ2MDXX-V  Reference: J
speakON Combo, 2 pole combination of speakON socket and 6.35mm (1/4in) jack receptacle, vertical pcb mount. Replaces NLJ2MD-V; ki_keywords: speakon connector neutrik; ki_fp_filters: Jack*speakON*; Footprint: Connector_Audio:Jack_speakON-6.35mm_Neutrik_NLJ2MDXX-V_Vertical; Datasheet: https://www.neutrik.com/en/product/nlj2mdxx-v; Description_: speakON Combo, 2 pole combination of speakON socket and 6.35mm (1/4in) jack receptacle, vertical pcb mount. Replaces NLJ2MD-V
pins: 1+, 1-
text: T; S

## NLT4MD-V
designator *  value NLT4MD-V  Reference: J
STX Series, 4 pole male chassis connector, metal housing, vertical PCB mount,  self tapping screw holes (A-screw); ki_keywords: speakon connector neutrik; ki_fp_filters: Jack*speakON*; Footprint: Connector_Audio:Jack_speakON_Neutrik_NLT4MD-V_Vertical; Datasheet: https://www.neutrik.com/en/product/nlt4md-v; Description_: STX Series, 4 pole male chassis connector, metal housing, vertical PCB mount,  self tapping screw holes (A-screw)
pins: 1+, 1-, 2+, 2-

## NMJ4HCD2
designator *  value NMJ4HCD2  Reference: J
M Series, 6.35mm (1/4in) mono jack, switched, with chrome ferrule and straight PCB pins; ki_keywords: audio jack receptacle mono headphones phone TS connector neutrik; ki_fp_filters: Jack*; Footprint: Connector_Audio:Jack_6.35mm_Neutrik_NMJ4HCD2_Horizontal; Datasheet: https://www.neutrik.com/en/product/nmj4hcd2; Description_: M Series, 6.35mm (1/4in) mono jack, switched, with chrome ferrule and straight PCB pins
pins: S, SN, T, TN

## NMJ4HFD2
designator *  value NMJ4HFD2  Reference: J
M Series, 6.35mm (1/4in) mono jack, switched, with full threaded nose and straight PCB pins; ki_keywords: audio jack receptacle mono headphones phone TS connector neutrik; ki_fp_filters: Jack*; Footprint: Connector_Audio:Jack_6.35mm_Neutrik_NMJ4HFD2_Horizontal; Datasheet: https://www.neutrik.com/en/product/nmj4hfd2; Description_: M Series, 6.35mm (1/4in) mono jack, switched, with full threaded nose and straight PCB pins
pins: S, SN, T, TN

## NMJ4HFD3
designator *  value NMJ4HFD3  Reference: J
M Series, 6.35mm (1/4in) mono jack, switched, with a full threaded nose and offset PCB pins; ki_keywords: audio jack receptacle mono headphones phone TS connector neutrik; ki_fp_filters: Jack*; Footprint: Connector_Audio:Jack_6.35mm_Neutrik_NMJ4HFD3_Horizontal; Datasheet: https://www.neutrik.com/en/product/nmj4hfd3; Description_: M Series, 6.35mm (1/4in) mono jack, switched, with a full threaded nose and offset PCB pins
pins: S, SN, T, TN

## NMJ4HHD2
designator *  value NMJ4HHD2  Reference: J
M Series, 6.35mm (1/4in) mono jack, switched, with a half threaded nose and offset PCB pins; ki_keywords: audio jack receptacle mono headphones phone TS connector neutrik; ki_fp_filters: Jack*; Footprint: Connector_Audio:Jack_6.35mm_Neutrik_NMJ4HHD2_Horizontal; Datasheet: https://www.neutrik.com/en/product/nmj4hhd2; Description_: M Series, 6.35mm (1/4in) mono jack, switched, with a half threaded nose and offset PCB pins
pins: S, SN, T, TN

## NMJ6HCD2
designator *  value NMJ6HCD2  Reference: J
M Series, 6.35mm (1/4in) stereo jack, switched, with chrome ferrule and straight PCB pins; ki_keywords: audio jack receptacle stereo headphones connector neutrik; ki_fp_filters: Jack*; Footprint: Connector_Audio:Jack_6.35mm_Neutrik_NMJ6HCD2_Horizontal; Datasheet: https://www.neutrik.com/en/product/nmj6hcd2; Description_: M Series, 6.35mm (1/4in) stereo jack, switched, with chrome ferrule and straight PCB pins
pins: R, RN, S, SN, T, TN

## NMJ6HCD3
designator *  value NMJ6HCD3  Reference: J
M Series, 6.35mm (1/4in) stereo jack, switched, with chrome ferrule and offset PCB pins; ki_keywords: audio jack receptacle stereo headphones connector neutrik; ki_fp_filters: Jack*; Footprint: Connector_Audio:Jack_6.35mm_Neutrik_NMJ6HCD3_Horizontal; Datasheet: https://www.neutrik.com/en/product/nmj6hcd3; Description_: M Series, 6.35mm (1/4in) stereo jack, switched, with chrome ferrule and offset PCB pins
pins: R, RN, S, SN, T, TN

## NMJ6HFD2
designator *  value NMJ6HFD2  Reference: J
M Series, 6.35mm (1/4in) stereo jack, switched, with full threaded nose and straight PCB pins; ki_keywords: audio jack receptacle stereo headphones connector neutrik; ki_fp_filters: Jack*; Footprint: Connector_Audio:Jack_6.35mm_Neutrik_NMJ6HFD2_Horizontal; Datasheet: https://www.neutrik.com/en/product/nmj6hfd2; Description_: M Series, 6.35mm (1/4in) stereo jack, switched, with full threaded nose and straight PCB pins
pins: R, RN, S, SN, T, TN